# Altium footprint library TRANS-MM.PcbLib: 63 footprints (part 3 of 4)
Each footprint in its own frame and in the unit in brackets; x right, y up, seen from the top. Pads: shape width x height; smd on the part's side, far side on the other; paste and mask are expansions set on the pad; w line width, h text height; cw(c..) or ccw(c..) is an arc to the next point about the centre after c.
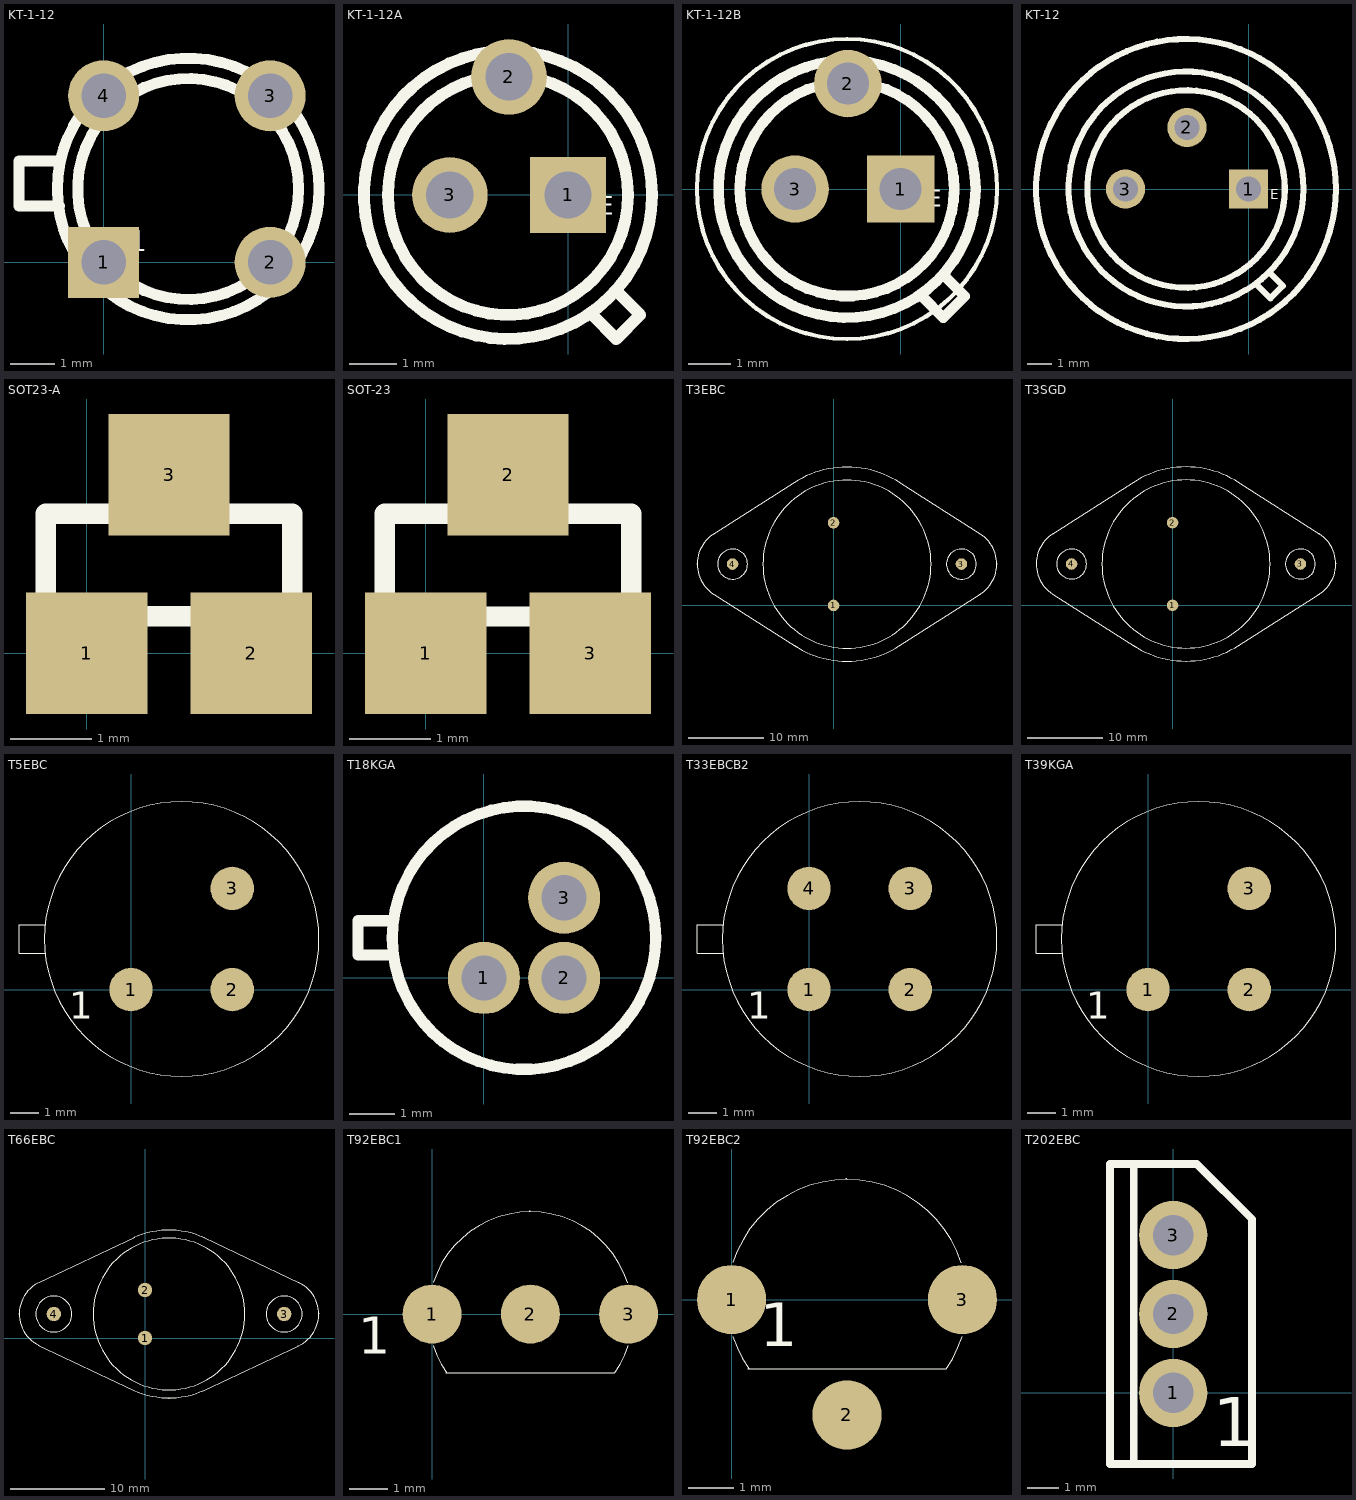
[diagram p2: the footprints below, top view; thin cyan lines are the x and y axes]

## KT-1-12 [mm]
pads (4):
  rect 1.6x1.6 hole 1: 1(0,0)
  round 1.6 hole 1: 2(3.75,0) 3(3.75,3.75) 4(0,3.75)
Top Overlay:
  circle w0.25: c1.905,1.651 r2.946
  circle w0.25: c1.905,1.651 r2.489
  lines w0.25: -0.991,1.27 -1.905,1.27 -1.905,2.286 -0.991,2.286
  text "1" at 0.565,0.248 h0.48

## KT-1-12A [mm]
pads (3):
  rect 1.6x1.6 hole 1: 1(0,0)
  round 1.6 hole 1: 2(-1.25,2.5) 3(-2.5,0)
Top Overlay:
  circle w0.25: c-1.27,0 r2.54
  circle w0.25: c-1.27,0 r3.048
  lines w0.25: 0.508,-2.54 1.016,-3.048 1.524,-2.54 1.016,-2.032
  text "E" at 0.629,-0.419 h0.4

## KT-1-12B [mm]
pads (3):
  rect 1.6x1.6 hole 1: 1(0,0)
  round 1.6 hole 1: 2(-1.25,2.5) 3(-2.5,0)
Top Overlay:
  circle w0.25: c-1.27,0 r3.048
  circle w0.1: c-1.27,0 r3.556
  circle w0.25: c-1.27,0 r2.54
  lines w0.25: 0.508,-2.54 1.016,-3.048 1.524,-2.54 1.016,-2.032
  text "E" at 0.629,-0.419 h0.4

## KT-12 [mm]
pads (3):
  rect 1.6x1.6 hole 1: 1(0,0)
  round 1.6 hole 1: 2(-2.5,2.5) 3(-5,0)
Top Overlay:
  circle w0.25: c-2.54,0 r6.096
  circle w0.25: c-2.54,0 r4.775
  circle w0.25: c-2.54,0 r4.013
  lines w0.25: 0.381,-3.937 0.889,-4.445 1.397,-3.937 0.889,-3.429
  text "E" at 0.883,-0.419 h0.4

## SOT23-A [mm]
pads (3):
  rect 1.5x1.5 smd: 1(0,0) 2(2.032,0) 3(1.016,2.21)
Top Overlay:
  lines w0.254: -0.508,0.711 -0.508,1.727 0.254,1.727 ; 0.762,0.457 1.27,0.457 ; 1.778,1.727 2.54,1.727 2.54,0.711

## SOT-23 [mm]
pads (3):
  rect 1.5x1.5 smd: 1(0,0) 2(1.016,2.21) 3(2.032,0)
Top Overlay:
  lines w0.25: -0.508,0.711 -0.508,1.727 0.254,1.727 ; 0.762,0.457 1.27,0.457 ; 1.778,1.727 2.54,1.727 2.54,0.711

## T3EBC [mil]
pads (4):
  round 60 all layers, no hole: 1(0,0) 2(0,430) 3(665,215) 4(-525,215)
Top Overlay:
  circle w1: c-525,215 r78
  circle w1: c665,215 r78
  circle w1: c70,215 r437
  lines w1: -710,215 -710,216 ; -626,370 -201,641 ; -623,58 -195,-215 ; -622.97,58.82 cw(c-525,215) -619.95,373.03 ; -204.79,-208.14 ccw(c70,215) 345.53,-207.66 ; -204.79,638.14 cw(c70,215) 345.53,637.66 ; 69,720 69,721 ; 70,-290 71,-290 ; 341,641 766,370 ; 343,-210 763,58 ; 760.23,57.14 ccw(c665,215) 763.24,371 ; 850,215 850,216
Mechanical 1:
  text "TO-3" at -113.12,132.58 h78.12

## T3SGD [mil]
pads (4):
  round 60 all layers, no hole: 1(0,0) 2(0,430) 3(665,215) 4(-525,215)
Top Overlay:
  circle w1: c-525,215 r78
  circle w1: c665,215 r78
  circle w1: c70,215 r437
  lines w1: -710,215 -710,216 ; -626,370 -201,641 ; -623,58 -195,-215 ; -622.97,58.82 cw(c-525,215) -619.95,373.03 ; -204.79,-208.14 ccw(c70,215) 345.53,-207.66 ; -204.79,638.14 cw(c70,215) 345.53,637.66 ; 68,720 69,720 ; 69,-290 70,-290 ; 341,641 766,370 ; 343,-210 763,58 ; 760.23,57.14 ccw(c665,215) 763.24,371 ; 850,217 850,218
Mechanical 1:
  text "TO-3" at -108.12,127.58 h78.12

## T5EBC [mil]
pads (3):
  round 60 all layers, no hole: 1(0,0) 2(140,0) 3(140,140)
Top Overlay:
  circle w1: c70,70 r190
  lines w1: -119,50 -155,50 -155,90 -119,90
  text "1" at -85.5,-40.5 h37.5
Mechanical 1:
  text "TO-5" at -54,-234 h50

## T18KGA [mm]
pads (3):
  round 1.6 hole 1: 1(0,0) 2(1.778,0) 3(1.778,1.778)
Top Overlay:
  circle w0.25: c0.889,0.889 r2.921
  lines w0.025: 0.864,-2.083 0.889,-2.083 ; 3.861,0.889 3.861,0.914
  lines w0.25: -2.007,0.508 -2.057,0.508 -2.794,0.508 -2.794,1.27 -2.057,1.27 -2.007,1.27

## T33EBCB2 [mil]
pads (4):
  round 60 all layers, no hole: 1(0,0) 2(140,0) 3(140,140) 4(0,140)
Top Overlay:
  circle w1: c70,70 r190
  lines w1: -119,50 -155,50 -155,90 -119,90
  text "1" at -85.5,-40.5 h37.5
Mechanical 1:
  text "TO-33" at -69,-234 h50

## T39KGA [mil]
pads (3):
  round 60 all layers, no hole: 1(0,0) 2(140,0) 3(140,140)
Top Overlay:
  circle w1: c70,70 r190
  lines w1: -119,50 -155,50 -155,90 -119,90
  text "1" at -85.5,-40.5 h37.5
Mechanical 1:
  text "TO-39" at -69,-234 h50

## T66EBC [mil]
pads (4):
  round 60 all layers, no hole: 1(0,0) 2(0,200) 3(580,100) 4(-380,100)
Top Overlay:
  circle w1: c580,100 r75
  circle w1: c-380,100 r75
  circle w1: c100,100 r316
  lines w1: -525,100 -525,101 ; -445,-30 -47,-218 ; -440.76,-30.89 cw(c-380,100) -435.92,233.03 ; -440,232 -42,420 ; -46.57,-217.2 ccw(c100,100) 247.12,-216.94 ; -46.57,417.2 cw(c100,100) 247.12,416.94 ; 99,-250 100,-250 ; 100,450 101,450 ; 242,-220 640,-32 ; 244,419 642,231 ; 636.15,-32.93 ccw(c580,100) 640.99,230.79 ; 725,102 725,103
Mechanical 1:
  text "TO-66" at -118.19,19.58 h78.12

## T92EBC1 [mil]
pads (3):
  round 60 all layers, no hole: 1(0,0) 2(100,0) 3(200,0)
Top Overlay:
  lines w1: 1.05,-32.15 ccw(c100,0) 14.77,-59.68 ; 1.05,32.15 cw(c100,0) 199.01,31.98 ; 14,-60 186,-60 ccw(c100,0) 199.79,-32.23 ; 99,105 100,105
  text "1" at -75.5,-40.5 h37.5
Mechanical 1:
  text "TO-92" at -5.25,-152.5 h37.5

## T92EBC2 [mil]
pads (3):
  round 60 all layers, no hole: 1(0,0) 2(100,-100) 3(200,0)
Top Overlay:
  lines w1: 1.05,-32.15 ccw(c100,0) 14.77,-59.68 ; 1.05,32.15 cw(c100,0) 199.01,31.98 ; 14,-60 186,-60 ccw(c100,0) 199.79,-32.23 ; 99,105 100,105
  text "1" at 24.5,-40.5 h37.5
Mechanical 1:
  text "TO-92" at -5.25,-202.5 h37.5

## T202EBC [mm]
pads (3):
  round 2.2 hole 1.3: 1(0,0) 2(0,2.54) 3(0,5.08)
Top Overlay:
  lines w0.25: -1.27,-2.286 -1.27,7.366 ; -2.032,-2.286 -2.032,7.366 0.762,7.366 2.54,5.588 2.54,-2.286 -2.032,-2.286
  text "1" at 1.27,-1.714 h1.59